# Altium footprint library Molex_DT.PcbLib: 1 footprints
Each footprint in its own frame and in the unit in brackets; x right, y up, seen from the top. Pads: shape width x height; smd on the part's side, far side on the other; paste and mask are expansions set on the pad; w line width, h text height; cw(c..) or ccw(c..) is an arc to the next point about the centre after c.
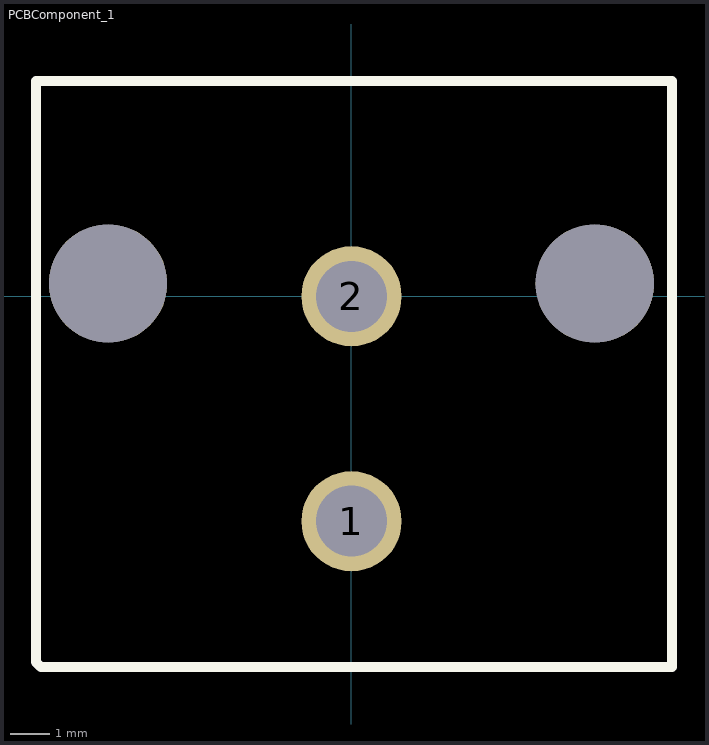
[diagram p0: the footprint, top view; thin cyan lines are the x and y axes]

## PCBComponent_1 [mm]
pads (4):
  round 2.54 hole 1.8: 1(0,-5.7) 2(0,0)
  round 3 hole 3 unplated: ""(-6.17,0.325) ""(6.17,0.325)
Top Overlay:
  lines w0.254: -8.001,-9.271 -8.001,5.461 8.128,5.461 8.128,-9.398 -7.874,-9.398 -8.001,-9.271
3D body "768290002.stp": height 16.95, standoff -1.63, extent -7.696,-8.954 7.696,5.08